# EAGLE library part MC1489 (library F030NG)
RS-232 driver / MC1489
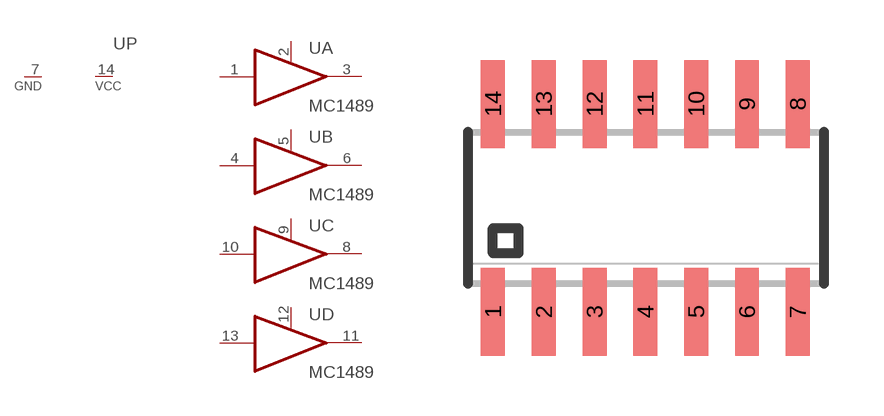
[diagram p39: symbol with the pads of SO14; footprint SO14]

Designator prefix U; gates A=1489 P=1VCC_1GND B=1489 C=1489 D=1489

## MC1489  [SO14]
1  A:I  in
2  A:RC  in
3  A:O  out
4  B:I  in
5  B:RC  in
6  B:O  out
7  P:GND  pwr
8  C:O  out
9  C:RC  in
10  C:I  in
11  D:O  out
12  D:RC  in
13  D:I  in
14  P:VCC  pwr

## Footprint SO14 (pad centres in mm)
SMALL OUTLINE INTEGRATED CIRCUIT body 3.9 mm/JEDEC MS-012AA
smd 0.6 x 2.2: 1 -3.81,-2.6; 2 -2.54,-2.6; 3 -1.27,-2.6; 4 0,-2.6; 5 1.27,-2.6; 6 2.54,-2.6; 7 3.81,-2.6; 8 3.81,2.6; 9 2.54,2.6; 10 1.27,2.6; 11 0,2.6; 12 -1.27,2.6; 13 -2.54,2.6; 14 -3.81,2.6